# Altium schematic symbol library SCH - DIODES - LED.SCHLIB: 1 symbol
Pins are listed as number, name and electrical type; pins without a type are passive.

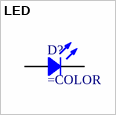
[diagram p0: symbol LED]

## LED
designator D?
Chip LED
pins: 1, 2